# Altium schematic symbol library Schlib.SchLib: 8 symbols
Pins are listed as number, name and electrical type; pins without a type are passive.

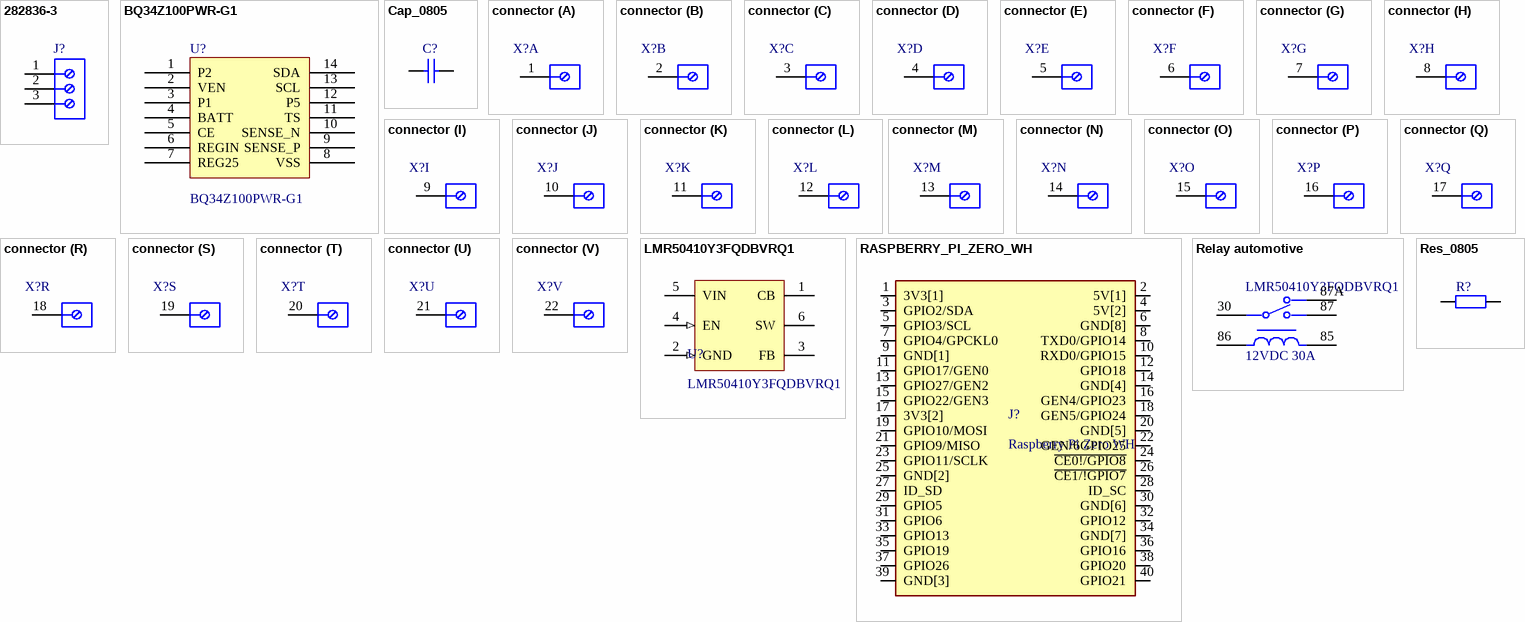
[diagram p0: symbols 282836-3 to Res_0805]

## 282836-3
designator J?  (value not drawn)
Connector, Terminal Block; Wire Receptacle; 3 Pos.; 16-30 AWG; 0.197 in. CL; Sid; Manufacturer: TE Connectivity; Plating: Brass; Number of Levels: 1; Number of Positions Per Level: 3; Current: 13.5A; Voltage: 300V; Closed End: No (Without); Interlock: Yes (With); Voltage Rating (AC): 250V; Pitch: 5mm; Wire Gauge (Max): 30AWG; Wire Gauge (Min): 16AWG; Tail Length: 3.5mm; Thread Size: M3; Approvals: UL; Supplier 1: Mouser; Manufacturer Part Number: 282836-3; RoHS: Yes; Category: Terminal Blocks; Stock 1: 394; Pricing 1: 1=0.96000, 10=0.57500, 50=0.57500, 100=0.48300, 600=0.45700, 1000=0.40600, 2600=0.36800, 4800=0.33000, 10000=0.33000, 11200=0.31700, 25600=0.31100 (USD); Mount: Through Hole,Board; Housing Color: Green; Contact Plating: Tin; Contact Material: Brass; Color: Green; Housing Material: Polyamide; Insulation Material: Nylon; Number of Rows: 1; Termination: Screw; Package Quantity: 200; Packaging: Bulk; Number of Positions: 3; Orientation: Straight; Series: Buchanan; Connector Type: Receptacle; Number of Contacts: 3; Screw Flange: No (Without); Screwless Terminal Block: No (Without); Side Stackable: Yes (With); Current Rating: 13.5A; Max Current Rating: 13.5A; Voltage Rating: 300V; Number of Circuits: 3; Max Supply Voltage (AC): 300V; Number of Poles: 3; Max Voltage Rating (AC): 300V; RMS Current (Irms): 13.5A; Working Voltage: 250V; Length: 15mm; Width: 10mm; Depth: 8.2mm; Wire/Cable Gauge: 16AWG; Radiation Hardening: No; Flammability Rating: UL94 V-0; RoHS Compliant: Yes; ELV: Compliant; REACH SVHC: Unknown; Lead Free: Lead Free; ComponentLink1URL: https://datasheet.ciiva.com/15169/getdatasheetpartid-155856-15169554.pdf?src-supplier=Verical; ComponentLink1Description: https://datasheet.ciiva.com/15169/getdatasheetpartid-155856-15169554.pdf?src-supplier=Verical; ComponentLink2URL: https://datasheet.ciiva.com/16305/eng-cs-1308389-eurostyle-terminal-blocks-0607-16305242.pdf?src-supplier=Future+Electronics; ComponentLink2Description: https://datasheet.ciiva.com/16305/eng-cs-1308389-eurostyle-terminal-blocks-0607-16305242.pdf?src-supplier=Future+Electronics; ComponentLink3URL: https://datasheet.ciiva.com/19460/750661-19460522.pdf?src-supplier=Jameco; ComponentLink3Description: https://datasheet.ciiva.com/19460/750661-19460522.pdf?src-supplier=Jameco; ComponentLink4URL: https://datasheet.ciiva.com/11757/0900766b8002dc8a-11757406.pdf?src-supplier=RSComponents; ComponentLink4Description: https://datasheet.ciiva.com/11757/0900766b8002dc8a-11757406.pdf?src-supplier=RSComponents; ComponentLink5URL: https://datasheet.ciiva.com/823/eng-cd-282836-h10-823445.pdf?src-supplier=Digi-Key; ComponentLink5Description: https://datasheet.ciiva.com/823/eng-cd-282836-h10-823445.pdf?src-supplier=Digi-Key; ComponentLink6URL: https://datasheet.ciiva.com/30106/eng-cs-1308389-eurostyle-terminal-blocks-0607-30106198.pdf?src-supplier=Onlinecomponents.com; ComponentLink6Description: https://datasheet.ciiva.com/30106/eng-cs-1308389-eurostyle-terminal-blocks-0607-30106198.pdf?src-supplier=Onlinecomponents.com; ComponentLink7URL: https://datasheet.ciiva.com/14606/70086276-14606907.pdf?src-supplier=Allied+Electronics; ComponentLink7Description: https://datasheet.ciiva.com/14606/70086276-14606907.pdf?src-supplier=Allied+Electronics; ComponentLink8URL: https://datasheet.ciiva.com/16649/eng-cs-1308389-eurostyle-terminal-blocks-0607-16649389.pdf?src-supplier=Avnet+Europe; ComponentLink8Description: https://datasheet.ciiva.com/16649/eng-cs-1308389-eurostyle-terminal-blocks-0607-16649389.pdf?src-supplier=Avnet+Europe; ComponentLink9URL: https://datasheet.ciiva.com/3141/eng-cs-1308389-eurostyle-terminal-blocks-0607-3141119.pdf?src-supplier=Avnet; ComponentLink9Description: https://datasheet.ciiva.com/3141/eng-cs-1308389-eurostyle-terminal-blocks-0607-3141119.pdf?src-supplier=Avnet; Supplier Part Number 1: 571-2828363
footprint TE_282836-3
pins: 1, 2, 3

## BQ34Z100PWR-G1
designator U?
Multi-chemistry Impedance Track™ standalone fuel gauge | battery gas gauge 14-TSSOP -40 to 85; Manufacturer: Texas Instruments; Interface: I2C; Operating Supply Voltage: 4.5V; Supplier 1: Digi-Key; Manufacturer Part Number: BQ34Z100PWR-G1; RoHS: Yes; Category: Battery Management; Pricing 1: 1=4.81000, 10=4.31700, 25=4.08080, 100=3.53660, 250=3.35528, 500=3.01068, 1000=2.99425 (USD); Mount: Surface Mount; Case/Package: TSSOP; Number of Pins: 14; Weight: 0.004949oz; Contact Plating: Gold; Min Operating Temperature: -40°C; Max Operating Temperature: 85°C; Packaging: Tape and Reel; Package Quantity: 2000; Lead Free: Lead Free; RoHS Compliant: Yes; ComponentLink1URL: http://www.ti.com/lit/ds/symlink/bq34z100-g1.pdf?src-supplier=Digi-Key; ComponentLink1Description: http://www.ti.com/lit/ds/symlink/bq34z100-g1.pdf?src-supplier=Digi-Key; ComponentLink2URL: http://www.ti.com/general/docs/lit/getliterature.tsp?genericPartNumber=BQ34Z100-G1&&fileType=pdf&src-supplier=Avnet; ComponentLink2Description: http://www.ti.com/general/docs/lit/getliterature.tsp?genericPartNumber=BQ34Z100-G1&&fileType=pdf&src-supplier=Avnet; ComponentLink3URL: http://www.ti.com/lit/gpn/bq34z100-g1?src-supplier=Mouser; ComponentLink3Description: http://www.ti.com/lit/gpn/bq34z100-g1?src-supplier=Mouser; Supplier Part Number 1: 296-39949-6-ND
pins: 1 P2, 2 VEN, 3 P1, 4 BATT, 5 CE, 6 REGIN, 7 REG25, 8 VSS, 9 SENSE_P, 10 SENSE_N, 11 TS, 12 P5, 13 SCL, 14 SDA

## Cap_0805
designator C?
Capacitor
footprint CAPC2013X88X50ML20T25 (Chip Capacitor, 2-Leads, Body 2.00x1.25mm, IPC Low Density)
pins: 1, 2

## connector
designator X?  (value not drawn)
part A pins: 1
part B pins: 2
part C pins: 3
part D pins: 4
part E pins: 5
part F pins: 6
part G pins: 7
part H pins: 8
part I pins: 9
part J pins: 10
part K pins: 11
part L pins: 12
part M pins: 13
part N pins: 14
part O pins: 15
part P pins: 16
part Q pins: 17
part R pins: 18
part S pins: 19
part T pins: 20
part U pins: 21
part V pins: 22

## LMR50410Y3FQDBVRQ1
designator U?
3,3V voltage regulator; Manufacturer: Texas Instruments; Supplier 1: Digi-Key; Manufacturer Part Number: LMR50410Y3FQDBVRQ1; RoHS: Yes; Stock 1: 2682; Pricing 1: 1=1.65000, 10=1.47600, 25=1.40080, 100=1.07570, 250=0.95060, 500=0.90058, 1000=0.70045 (USD); Supplier Part Number 1: 296-LMR50410Y3FQDBVRQ1CT-ND
footprint 3.3v_voltage_regulator
pins: 1 CB (power) "Charge Pump Output Voltage. In constant frequency mode (MODE = low) this pin is driven to -VIN. In Burst Mode operation, (MODE = high) this pin voltage is regulated to -0.94 ?VIN using an internal burst comparator wit(See Datasheet)", 2 GND (in) "Logic Input. The MODE pin determines the charge pump operating mode. A logic “high?on the MODE pin forces the charge pump into Burst Mode operation regulating VOUT to approximately -0.94 ?VIN with hysteretic con(See Datasheet)", 3 FB "Flying Capacitor Negative Connection.", 4 EN (in) "Logic Input. A logic “high?on the EN pin enables the inverting charge pump.", 5 VIN (power) "Input Voltage for the Charge Pump. VIN should be bypassed with a low impedance ceramic capacitor.", 6 SW "Flying Capacitor Positive Connection."

## RASPBERRY_PI_ZERO_WH
designator J?, comment Raspberry Pi Zero WH
Raspberry Pi Zero WH with Headers; MP: ADA3708; Availability: Unavailable; Package: None; MF: Raspberry Pi; Value: *; Price: None; SnapEDA_Link: https://www.snapeda.com/parts/ADA3708/Raspberry%20Pi/view-part/2770118/?ref=snap
footprint raspberry_zero
pins: 1 3V3[1] (power), 2 5V[1] (power), 3 GPIO2/SDA (io), 4 5V[2] (power), 5 GPIO3/SCL (io), 6 GND[8] (power), 7 GPIO4/GPCKL0 (io), 8 TXD0/GPIO14 (io), 9 GND[1] (power), 10 RXD0/GPIO15 (io), 11 GPIO17/GEN0 (io), 12 GPIO18 (io), 13 GPIO27/GEN2 (io), 14 GND[4] (power), 15 GPIO22/GEN3 (io), 16 GEN4/GPIO23 (io), 17 3V3[2] (power), 18 GEN5/GPIO24 (io), 19 GPIO10/MOSI (io), 20 GND[5] (power), 21 GPIO9/MISO (io), 22 GEN/6GPIO25 (io), 23 GPIO11/SCLK (io), 24 ~{CE0!/GPIO8} (io), 25 GND[2] (power), 26 ~{CE1/!GPIO7} (io), 27 ID_SD (io), 28 ID_SC (io), 29 GPIO5 (io), 30 GND[6] (power), 31 GPIO6 (io), 32 GPIO12 (io), 33 GPIO13 (io), 34 GND[7] (power), 35 GPIO19 (io), 36 GPIO16 (io), 37 GPIO26 (io), 38 GPIO20 (io), 39 GND[3] (power), 40 GPIO21 (io)

## Relay automotive
designator LMR50410Y3FQDBVRQ1, comment 12VDC 30A
Power Relay 12VDC 90(NO)/30(NC)A SPDT(26.5x26.5x24.5)mm Plug-In; Manufacturer: TE Connectivity; Manufacturer Part Number: 1432787-1; Throw Configuration: SPDT,DPDT; Coil Current: 151mA; Operate Time: 10ms; Release Time: 13ms; Relay Type: Automotive; Coil Power: 1.8W; Coil Type: Non-Latching; Coil Resistance: 79.5R; Coil Voltage (DC): 12V; Current Rating: 40A; Voltage Rating (DC): 14V; Supplier 1: RSComponents; RoHS: Yes; Category: Power Relays; Stock 1: 124; Pricing 1: 1=5.77600, 10=5.49900, 25=5.22200, 50=4.76500, 150=4.16900 (USD); Mount: Socketable,Plug-In,Socket; Number of Pins: 5; Contact Material: Tin,Silver; Min Operating Temperature: -40°C; Max Operating Temperature: 85°C; Package Quantity: 100; Packaging: Bulk; Termination: Plug; Contact Current Rating: 30A; Lead Free: Lead Free; ComponentLink1URL: https://datasheet.ciiva.com/30468/0900766b8122a645-30468979.pdf?src-supplier=RSComponents; ComponentLink1Description: https://datasheet.ciiva.com/30468/0900766b8122a645-30468979.pdf?src-supplier=RSComponents; ComponentLink2URL: https://datasheet.ciiva.com/30061/eng-cd-1432787-1-b-30061776.pdf?src-supplier=Onlinecomponents.com; ComponentLink2Description: https://datasheet.ciiva.com/30061/eng-cd-1432787-1-b-30061776.pdf?src-supplier=Onlinecomponents.com; Supplier Part Number 1: 7826947
footprint automotive_relay
pins: 30, 85, 86, 87, 87A 87

## Res_0805
designator R?
Resistor
footprint RESC2013X50X30ML20T20 (Chip Resistor, 2-Leads, Body 2.00x1.25mm, IPC Low Density)
pins: 1, 2